# EAGLE library part STM8S003F3U6TR (library STM-STM8S003_L78LxxUTR)
Value line, 16 MHz STM8S 8-bit MCU, 8 Kbytes Flash, 128 bytes data EEPROM, 10-bit ADC, 3 timers, UART, SPI, I²C,20UFQFPN
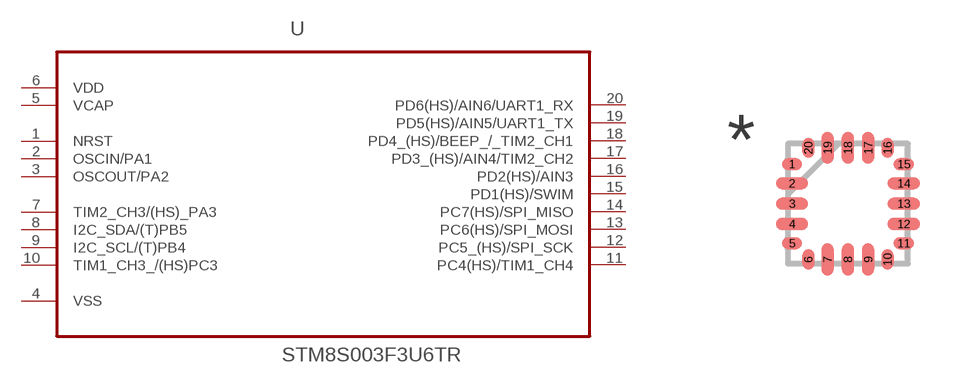
[diagram p0: symbol with the pads of QFN50P300X300X100-20N_STM; footprint QFN50P300X300X100-20N_STM]

Designator prefix U

## STM8S003F3U6TR (MPN: STM8S003F3U6TR; OC_FARNELL: 2070941; OC_NEWARK: 75T8339; PACKAGE: 20UFQFPN; SUPPLIER: STMicroelectronics)  [QFN50P300X300X100-20N_STM]
1  NRST
2  OSCIN/PA1
3  OSCOUT/PA2
4  VSS  pwr
5  VCAP  pwr
6  VDD  pwr
7  TIM2_CH3/(HS)_PA3
8  I2C_SDA/(T)PB5
9  I2C_SCL/(T)PB4
10  TIM1_CH3_/(HS)PC3
11  PC4(HS)/TIM1_CH4
12  PC5_(HS)/SPI_SCK
13  PC6(HS)/SPI_MOSI
14  PC7(HS)/SPI_MISO
15  PD1(HS)/SWIM
16  PD2(HS)/AIN3
17  PD3_(HS)/AIN4/TIM2_CH2
18  PD4_(HS)/BEEP_/_TIM2_CH1
19  PD5(HS)/AIN5/UART1_TX
20  PD6(HS)/AIN6/UART1_RX

## Footprint QFN50P300X300X100-20N_STM (pad centres in mm)
smd 0.508 x 0.305: 1 -1.397,0.991; 5 -1.397,-0.991; 11 1.397,-0.991; 15 1.397,0.991
smd 0.813 x 0.305: 2 -1.397,0.508; 3 -1.397,0; 4 -1.397,-0.508; 12 1.397,-0.508; 13 1.397,0; 14 1.397,0.508
smd 0.305 x 0.508: 6 -0.991,-1.397; 10 0.991,-1.397; 16 0.991,1.397; 20 -0.991,1.397
smd 0.305 x 0.813: 7 -0.508,-1.397; 8 0,-1.397; 9 0.508,-1.397; 17 0.508,1.397; 18 0,1.397; 19 -0.508,1.397